# Altium schematic symbol library Components - 16.09.24 - 18.14.SchLib: 1 symbol
Pins are listed as number, name and electrical type; pins without a type are passive.

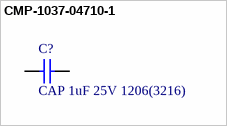
[diagram p0: symbol CMP-1037-04710-1]

## CMP-1037-04710-1
designator C?, comment CAP 1uF 25V 1206(3216)
CAP 1uF 25V -20% to +80% 1206 (3216 Metric) Thickness 1.3mm SMD; Case-Metric: 3216; Case-EIA: 1206; Tolerance: -20% to +80%; Value: 1uF; Max Thickness: 1.3 mm; Technology: SMT; Rated Voltage: 25 V
footprint CAPC1206(3216)130_L (Chip Capacitor, Body 3.2x1.6mm, Height 1.3mm, IPC High Density)
footprint CAPC1206(3216)130_N (Chip Capacitor, Body 3.2x1.6mm, Height 1.3mm, IPC Medium Density)
footprint CAPC1206(3216)130_M (Chip Capacitor, Body 3.2x1.6mm, Height 1.3mm, IPC Low Density)
pins: 1, 2
1 alternate drawing of the same symbol